# EAGLE library part 1-338068-6 (library TE-MicroMatch)
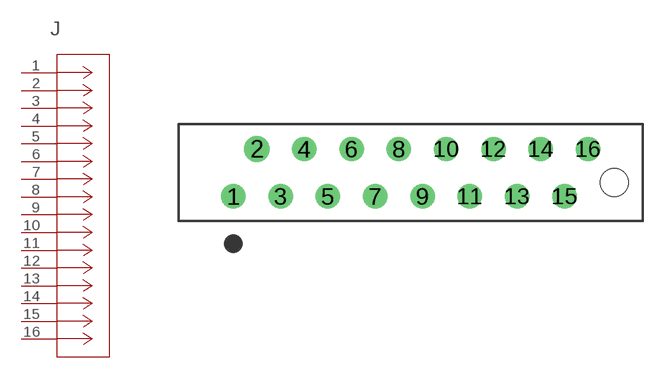
[diagram p0: symbol with the pads of CONN_1-338068-6; footprint CONN_1-338068-6]

Designator prefix J

## 1-338068-6 (MANUFACTURER_PART_NUMBER: 13380686; VENDOR: TE Connectivity)  [CONN_1-338068-6]
1  1  pas
2  2  pas
3  3  pas
4  4  pas
5  5  pas
6  6  pas
7  7  pas
8  8  pas
9  9  pas
10  10  pas
11  11  pas
12  12  pas
13  13  pas
14  14  pas
15  15  pas
16  16  pas

## Footprint CONN_1-338068-6 (pad centres in mm)
drill 0.8: 1 0,0; 3 2.54,0; 4 3.81,2.54; 5 5.08,0; 6 6.35,2.54; 7 7.62,0; 8 8.89,2.54; 9 10.16,0; 10 11.43,2.54; 11 12.7,0; 12 13.97,2.54; 13 15.24,0; 14 16.51,2.54; 15 17.78,0; 16 19.05,2.54
drill 0.864: 2 1.27,2.54
hole 1.5 at 20.45,0.74